# EAGLE library part 64902221022 (library Wuerth_Elektronik_eiCan_07_Mini_Power_Connectors)
WR-MPC4-4.20mm Male Dual Row Angled Header with Mounting Flanges for Screw-in Retention,22 pins
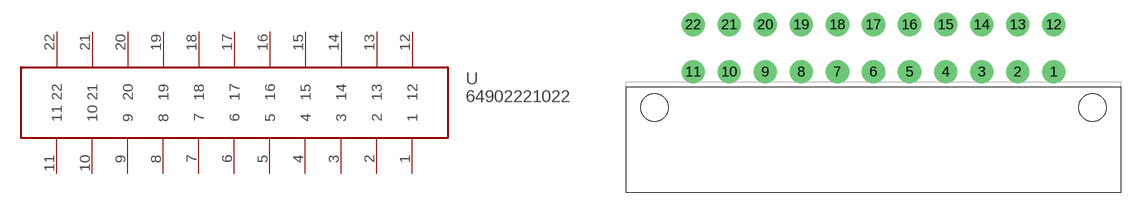
[diagram p28: symbol with the pads of 64902221022; footprint 64902221022]

Designator prefix -

## 64902221022  [64902221022]
1  1
2  2
3  3
4  4
5  5
6  6
7  7
8  8
9  9
10  10
11  11
12  12
13  13
14  14
15  15
16  16
17  17
18  18
19  19
20  20
21  21
22  22

## Footprint 64902221022 (pad centres in mm)
WR-MPC4-4.20mm Male Dual Row Angled Header with Mounting Flanges for Screw-in Retention,22 pins
drill 1.8 round: 1 23.635,-2.75; 2 19.435,-2.75; 3 15.235,-2.75; 4 11.035,-2.75; 5 6.835,-2.75; 6 2.635,-2.75; 7 -1.565,-2.75; 8 -5.765,-2.75; 9 -9.965,-2.75; 10 -14.165,-2.75; 11 -18.365,-2.75; 12 23.635,2.75; 13 19.435,2.75; 14 15.235,2.75; 15 11.035,2.75; 16 6.835,2.75; 17 2.635,2.75; 18 -1.565,2.75; 19 -5.765,2.75; 20 -9.965,2.75; 21 -14.165,2.75; 22 -18.365,2.75
hole 3.2 at -22.865,-6.95
hole 3.2 at 28.135,-6.95